# Altium schematic symbol library MicroUSB_Connector.SchLib: 1 symbol
Pins are listed as number, name and electrical type; pins without a type are passive.

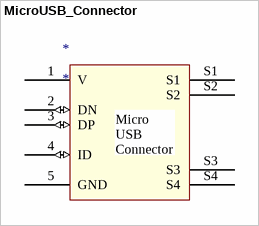
[diagram p0: symbol MicroUSB_Connector]

## MicroUSB_Connector
designator *
pins: 1 V (power), 2 DN (io), 3 DP (io), 4 ID (io), 5 GND (power), S1 (power), S2 (power), S3 (power), S4 (power)
text: Micro USB / Connector